# EAGLE library part SMD-BLUE-FEMALE-HEADER-VERT(2X3P-2.54) (library OPL-Connector)
320030035
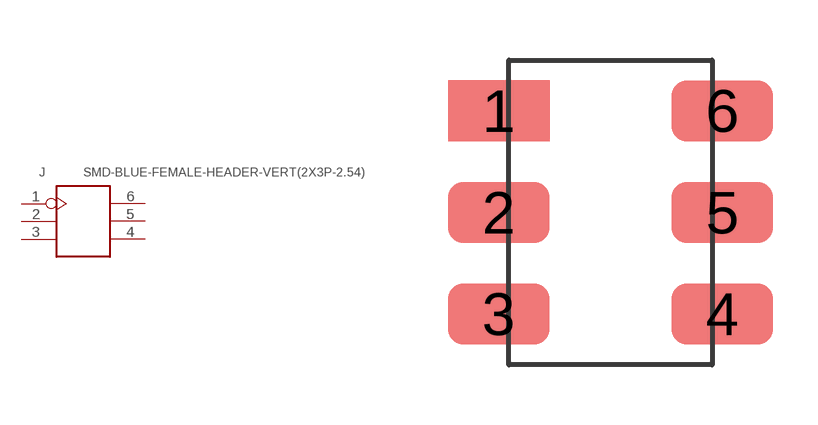
[diagram p19: symbol with the pads of H2X3-SMD-2.54; footprint H2X3-SMD-2.54]

Designator prefix J

## SMD-BLUE-FEMALE-HEADER-VERT(2X3P-2.54) (MPN: F185-1203A1BMYA1)  [H2X3-SMD-2.54]
1  1
2  2
3  3
4  4
5  5
6  6

## Footprint H2X3-SMD-2.54 (pad centres in mm)
smd 2.54 x 1.524: 1 -2.794,2.54; 2 -2.794,0; 3 -2.794,-2.54; 4 2.794,-2.54; 5 2.794,0; 6 2.794,2.54